# Altium schematic symbol library C8051.SchLib: 1 symbol
Pins are listed as number, name and electrical type; pins without a type are passive.

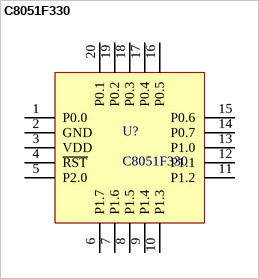
[diagram p0: symbol C8051F330]

## C8051F330
designator U?
footprint LC-QFN-20_4x4x05P
pins: 1 P0.0, 2 GND, 3 VDD, 4 ~{RST}, 5 P2.0, 6 P1.7, 7 P1.6, 8 P1.5, 9 P1.4, 10 P1.3, 11 P1.2, 12 P1.1, 13 P1.0, 14 P0.7, 15 P0.6, 16 P0.5, 17 P0.4, 18 P0.3, 19 P0.2, 20 P0.1